# EAGLE library part 61004021821 (library Eagle_BOARD-TO-BOARD_CONNECTORS (rev18b))
WR-PHD 2.54mm SMT Socket Header=>Code : Con_BTB_SHD_2.54_1_SMT_610x0421821(packageing:x = 0: Tube x = 3: Tape & Reel with Cap; 600 pcs/Reel) <http://katalog.we-online.de/media/images/eican/Con_BTB_SHD_2.54_1_SMT_6100xx21821_pf2.jpg> 6100xx21821 Details see: http://katalog.we-online.de/en/em/PHD_2_54_SMT_DUAL_SOCKET_HEADER_6100XX21821 6103xx21821 2014 (C) Würth Elektronik
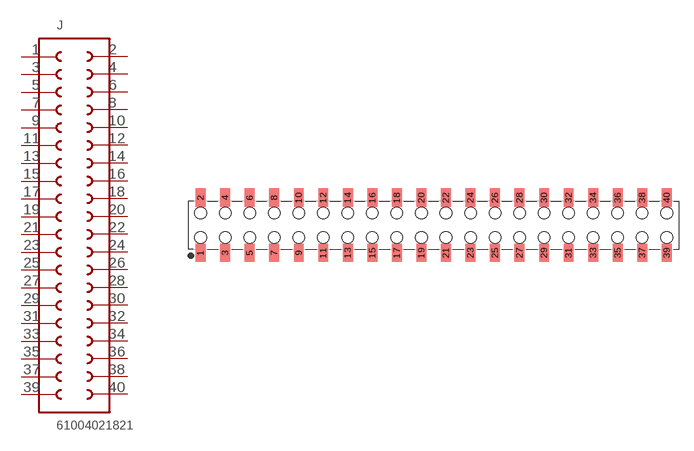
[diagram p217: symbol with the pads of 61004021821; footprint 61004021821]

Designator prefix J

## 61004021821  [61004021821]
1  1  pas
2  40  pas
3  2  pas
4  39  pas
5  3  pas
6  38  pas
7  4  pas
8  37  pas
9  5  pas
10  36  pas
11  6  pas
12  35  pas
13  7  pas
14  34  pas
15  8  pas
16  33  pas
17  9  pas
18  32  pas
19  10  pas
20  31  pas
21  11  pas
22  30  pas
23  12  pas
24  29  pas
25  13  pas
26  28  pas
27  14  pas
28  27  pas
29  15  pas
30  26  pas
31  16  pas
32  25  pas
33  17  pas
34  24  pas
35  18  pas
36  23  pas
37  19  pas
38  22  pas
39  20  pas
40  21  pas

## Footprint 61004021821 (pad centres in mm)
WR-PHD 2.54mm Dual SMT Socket Header, 40 Pins
smd 1.02 x 1.9: 1 -24.13,-2.85; 2 -24.13,2.85; 3 -21.59,-2.85; 4 -21.59,2.85; 5 -19.05,-2.85; 6 -19.05,2.85; 7 -16.51,-2.85; 8 -16.51,2.85; 9 -13.97,-2.85; 10 -13.97,2.85; 11 -11.43,-2.85; 12 -11.43,2.85; 13 -8.89,-2.85; 14 -8.89,2.85; 15 -6.35,-2.85; 16 -6.35,2.85; 17 -3.81,-2.85; 18 -3.81,2.85; 19 -1.27,-2.85; 20 -1.27,2.85; 21 1.27,-2.85; 22 1.27,2.85; 23 3.81,-2.85; 24 3.81,2.85; 25 6.35,-2.85; 26 6.35,2.85; 27 8.89,-2.85; 28 8.89,2.85; 29 11.43,-2.85; 30 11.43,2.85; 31 13.97,-2.85; 32 13.97,2.85; 33 16.51,-2.85; 34 16.51,2.85; 35 19.05,-2.85; 36 19.05,2.85; 37 21.59,-2.85; 38 21.59,2.85; 39 24.13,-2.85; 40 24.13,2.85
hole 1.2 at -24.13,-1.27
hole 1.2 at -21.59,-1.27
hole 1.2 at -21.59,1.27
hole 1.2 at -24.13,1.27
hole 1.2 at -19.05,-1.27
hole 1.2 at -19.05,1.27
hole 1.2 at -16.51,1.27
hole 1.2 at -16.51,-1.27
hole 1.2 at -13.97,-1.27
hole 1.2 at -13.97,1.27
hole 1.2 at -11.43,-1.27
hole 1.2 at -11.43,1.27
hole 1.2 at -8.89,1.27
hole 1.2 at -8.89,-1.27
hole 1.2 at -6.35,1.27
hole 1.2 at -6.35,-1.27
hole 1.2 at -3.81,-1.27
hole 1.2 at -3.81,1.27
hole 1.2 at -1.27,-1.27
hole 1.2 at -1.27,1.27
hole 1.2 at 1.27,1.27
hole 1.2 at 1.27,-1.27
hole 1.2 at 3.81,-1.27
hole 1.2 at 3.81,1.27
hole 1.2 at 6.35,-1.27
hole 1.2 at 6.35,1.27
hole 1.2 at 8.89,-1.27
hole 1.2 at 8.89,1.27
hole 1.2 at 11.43,-1.27
hole 1.2 at 11.43,1.27
hole 1.2 at 13.97,1.27
hole 1.2 at 13.97,-1.27
hole 1.2 at 16.51,1.27
hole 1.2 at 16.51,-1.27
hole 1.2 at 19.05,1.27
hole 1.2 at 19.05,-1.27
hole 1.2 at 21.59,1.27
hole 1.2 at 24.13,1.27
hole 1.2 at 21.59,-1.27
hole 1.2 at 24.13,-1.27